# Altium schematic symbol library 6ConnectorRHS.SchLib: 1 symbol
Pins are listed as number, name and electrical type; pins without a type are passive.

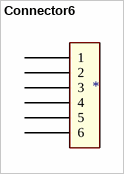
[diagram p0: symbol Connector6]

## Connector6
designator *, comment *?  (value not drawn)
footprint PCBComponent_1
pins: 1, 2, 3, 4, 5, 6